# EAGLE library part KR1012IK2 (library _mtvl_ic.soviet)
Octave divider
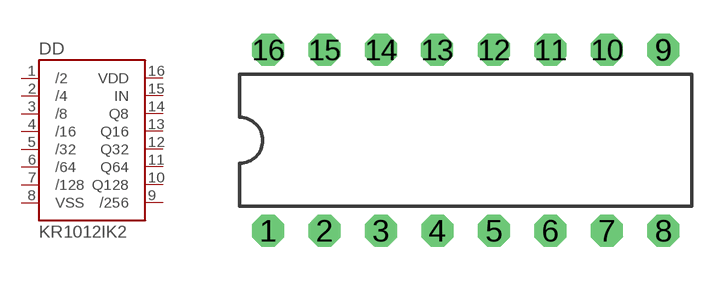
[diagram p10: symbol with the pads of 201.16.6; footprint 201.16.6]

Designator prefix DD

## KR1012IK2  [201.16.6]
1  /2  out
2  /4  out
3  /8  out
4  /16  out
5  /32  out
6  /64  out
7  /128  out
8  VSS  sup
9  /256  out
10  Q128  out
11  Q64  out
12  Q32  out
13  Q16  out
14  Q8  out
15  IN  in
16  VDD  sup

## Footprint 201.16.6 (pad centres in mm)
drill 0.9 octagon: 1 -8.75,-4; 2 -6.25,-4; 3 -3.75,-4; 4 -1.25,-4; 5 1.25,-4; 6 3.75,-4; 7 6.25,-4; 8 8.75,-4; 9 8.75,4; 10 6.25,4; 11 3.75,4; 12 1.25,4; 13 -1.27,4; 14 -3.75,4; 15 -6.25,4; 16 -8.75,4